# Altium footprint library CAP AL TH D22 L10 H53.PCBLIB: 1 footprints
Each footprint in its own frame and in the unit in brackets; x right, y up, seen from the top. Pads: shape width x height; smd on the part's side, far side on the other; paste and mask are expansions set on the pad; w line width, h text height; cw(c..) or ccw(c..) is an arc to the next point about the centre after c.
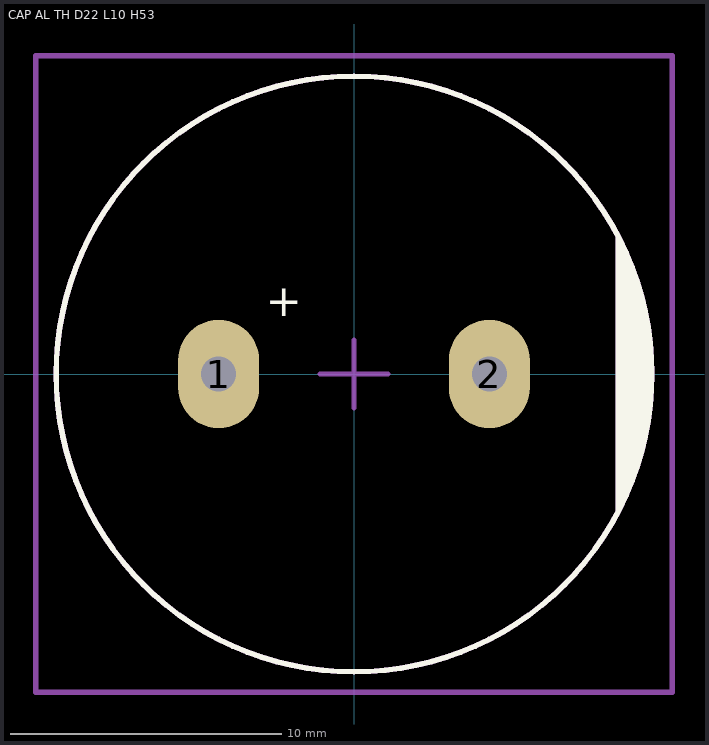
[diagram p0: the footprint, top view; thin cyan lines are the x and y axes]

## CAP AL TH D22 L10 H53 [mm] "16MM Diameter, 7.5MM Lead Spacing Aluminium Capacitor"
height 53
pads (2):
  oval 3x4 hole 1.3: 1(-5,0) 2(5,0)
Top Overlay:
  circle w0.2: c0,0 r11
  region: 9.75,-5 9.75,5 10.75,2.5 11,1 11,0 11,-1 10.5,-3.25
  lines w0.2: 9.75,-5 9.75,5
  text "+" at -3.25,1.75 h2
Mechanical 13:
  circle w0.2: c0,0 r11
  lines w0.2: 9.75,-5 9.75,5
Mechanical 15:
  lines w0.2: -1.25,0 1.25,0 ; 0,-1.25 0,1.25 ; -11.75,-11.75 -11.75,11.75 11.75,11.75 11.75,-11.75 -11.75,-11.75
3D body "CAP ALTH D-22MM L-10MM H-53MM.STEP": height 53.2, standoff -3, extent -11,-10.97 11,10.971